# EAGLE library part MRF24J40MA (library 1dah)
Microchip 2.4 GHz transciever module
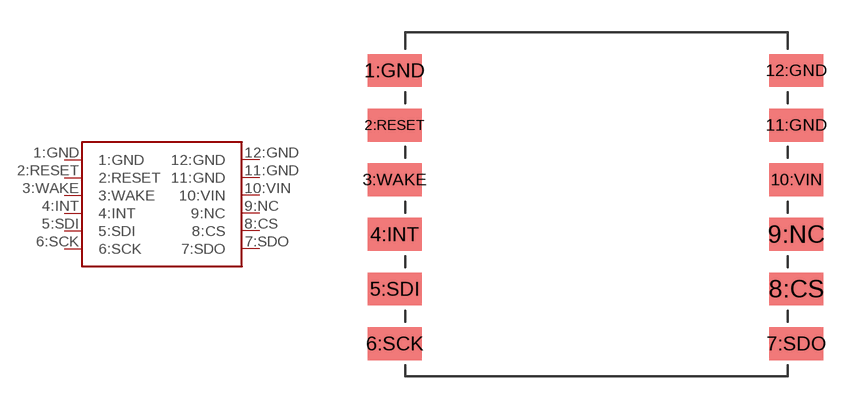
[diagram p21: symbol with the pads of MRF24J40MA; footprint MRF24J40MA]

Designator prefix -

## MRF24J40MA  [MRF24J40MA]
1:GND  1:GND
2:RESET  2:RESET
3:WAKE  3:WAKE
4:INT  4:INT
5:SDI  5:SDI
6:SCK  6:SCK
7:SDO  7:SDO
8:CS  8:CS
9:NC  9:NC
10:VIN  10:VIN
11:GND  11:GND
12:GND  12:GND

## Footprint MRF24J40MA (pad centres in mm)
Microchip 2.4 GHz wireless communication tranceiver
smd 2.5 x 1.524: 1:GND -9.39,-1.778; 2:RESET -9.39,-4.318; 3:WAKE -9.39,-6.858; 4:INT -9.39,-9.398; 5:SDI -9.39,-11.938; 6:SCK -9.39,-14.478; 7:SDO 9.29,-14.478; 8:CS 9.29,-11.938; 9:NC 9.29,-9.398; 10:VIN 9.29,-6.858; 11:GND 9.29,-4.318; 12:GND 9.29,-1.778